# EAGLE library part A9G (library A9)
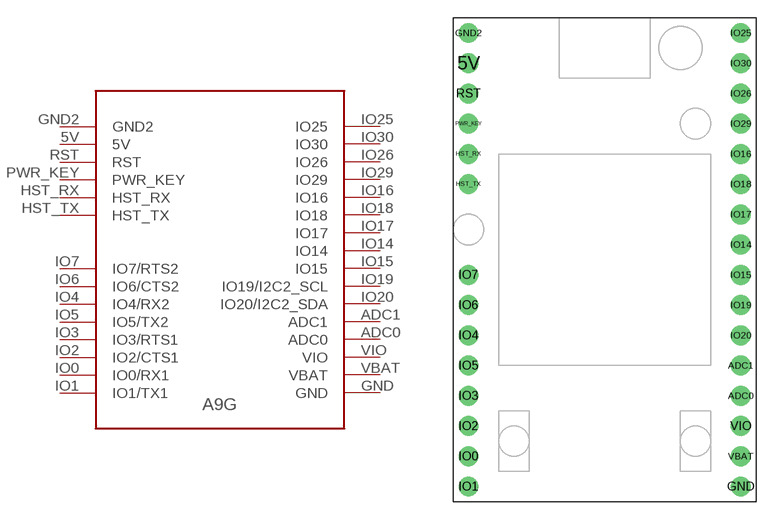
[diagram p0: symbol with the pads of A9G; footprint A9G]

Designator prefix -

## A9G  [A9G]
5V  5V
ADC0  ADC0
ADC1  ADC1
GND  GND
GND2  GND2
HST_RX  HST_RX
HST_TX  HST_TX
IO0  IO0/RX1
IO1  IO1/TX1
IO2  IO2/CTS1
IO3  IO3/RTS1
IO4  IO4/RX2
IO5  IO5/TX2
IO6  IO6/CTS2
IO7  IO7/RTS2
IO14  IO14
IO15  IO15
IO16  IO16
IO17  IO17
IO18  IO18
IO19  IO19/I2C2_SCL
IO20  IO20/I2C2_SDA
IO25  IO25
IO26  IO26
IO29  IO29
IO30  IO30
PWR_KEY  PWR_KEY
RST  RST
VBAT  VBAT
VIO  VIO

## Footprint A9G (pad centres in mm)
drill 1 pad 1.676: 5V -11.43,16.51; ADC0 11.43,-11.43; ADC1 11.43,-8.89; GND 11.43,-19.05; GND2 -11.43,19.05; HST_RX -11.43,8.89; HST_TX -11.43,6.35; IO0 -11.43,-16.51; IO1 -11.43,-19.05; IO2 -11.43,-13.97; IO3 -11.43,-11.43; IO4 -11.43,-6.35; IO5 -11.43,-8.89; IO6 -11.43,-3.81; IO7 -11.43,-1.27; IO14 11.43,1.27; IO15 11.43,-1.27; IO16 11.43,8.89; IO17 11.43,3.81; IO18 11.43,6.35; IO19 11.43,-3.81; IO20 11.43,-6.35; IO25 11.43,19.05; IO26 11.43,13.97; IO29 11.43,11.43; IO30 11.43,16.51; PWR_KEY -11.43,11.43; RST -11.43,13.97; VBAT 11.43,-16.51; VIO 11.43,-13.97